# Altium footprint library KF2EDGK5.0.PcbLib: 29 footprints (part 2 of 2)
Each footprint in its own frame and in the unit in brackets; x right, y up, seen from the top. Pads: shape width x height; smd on the part's side, far side on the other; paste and mask are expansions set on the pad; w line width, h text height; cw(c..) or ccw(c..) is an arc to the next point about the centre after c.
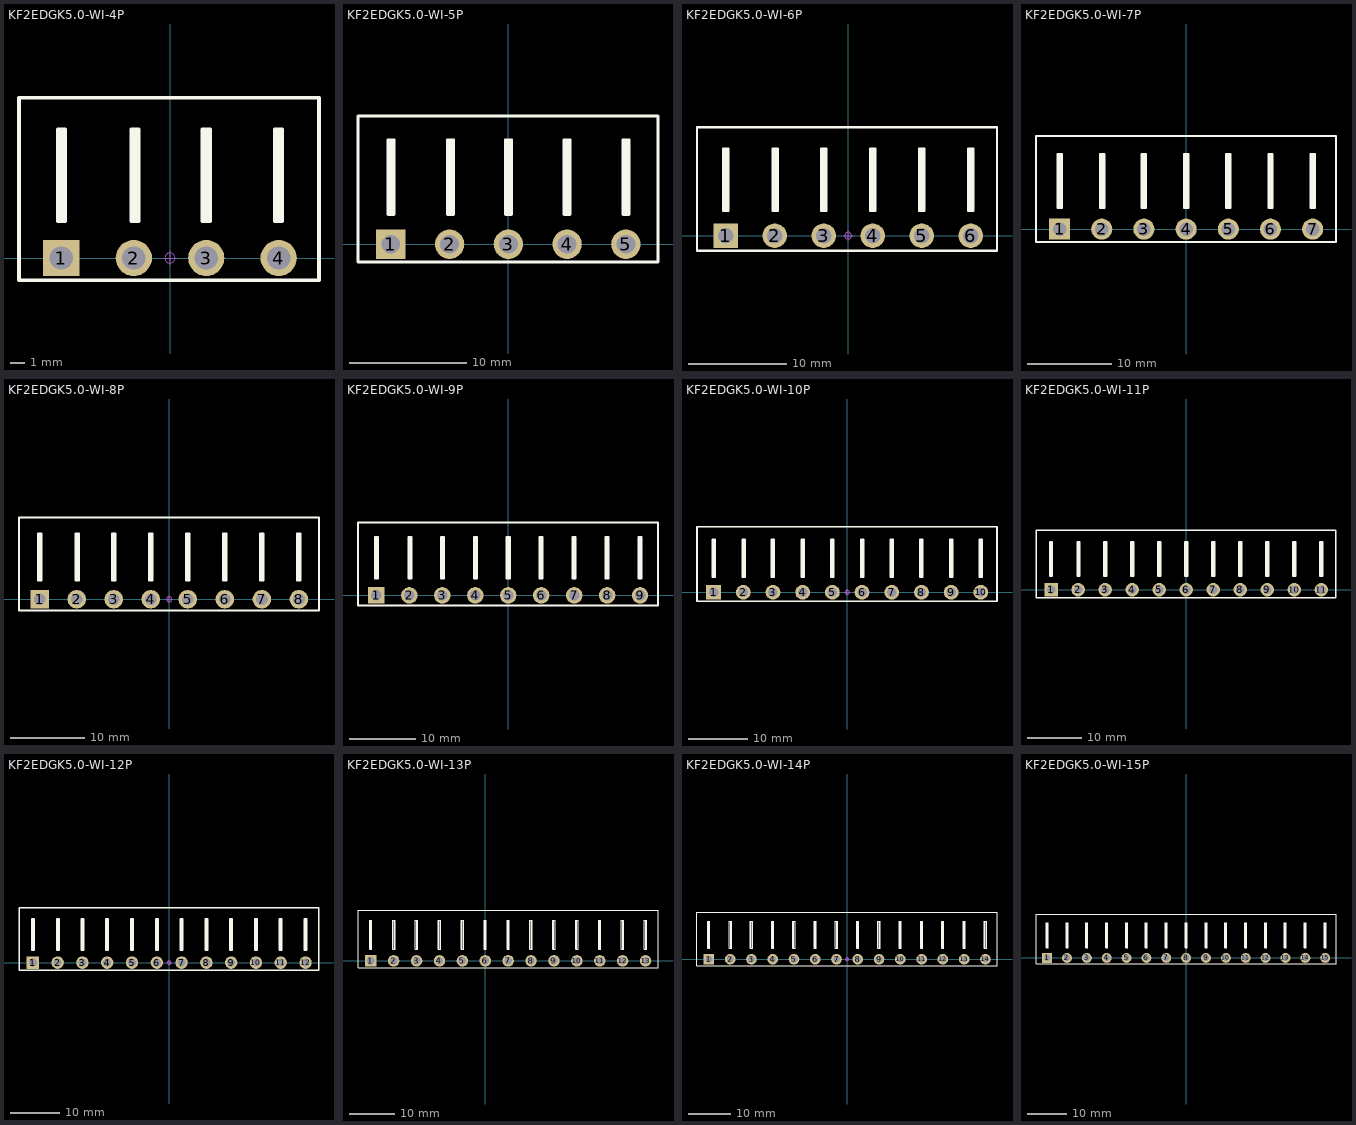
[diagram p1: the footprints below, top view; thin cyan lines are the x and y axes]

## KF2EDGK5.0-WI-4P [mm] "卧插端子"
pads (4):
  rect 2.5x2.5 hole 1.6: 1(-7.5,0)
  round 2.5 hole 1.6: 2(-2.5,0) 3(2.5,0) 4(7.5,0)
Top Overlay:
  lines w0.254: -7.5,2.54 -7.5,8.89 ; -2.42,2.54 -2.42,8.89 ; 2.5,2.54 2.5,8.89 ; 7.5,2.54 7.5,8.89 ; -7.5,8.89 -7.246,8.89 -7.246,2.54 -7.754,2.54 -7.754,8.89 -7.5,8.89 ; -2.42,8.89 -2.166,8.89 -2.166,2.54 -2.674,2.54 -2.674,8.89 -2.42,8.89 ; 2.5,8.89 2.246,8.89 2.246,2.54 2.754,2.54 2.754,8.89 2.5,8.89 ; 7.5,8.89 7.754,8.89 7.754,2.54 7.246,2.54 7.246,8.89 7.5,8.89 ; -10.421,-1.524 10.28,-1.524 10.28,11.049 -10.421,11.049 -10.421,-1.524
Mechanical 15:
  circle w0.05: c0,0 r0.35
  lines w0.05: -0.5,0 0.5,0 ; 0,-0.5 0,0.5
3D body "KF2EDGK-1P_H.STEP": height 8.5, standoff -3, extent -10.04,-0.5 -4.96,10.8
3D body "KF2EDGK-1P_H.STEP": height 8.5, standoff -3, extent -5.04,-0.5 0.04,10.8
3D body "KF2EDGK-1P_H.STEP": height 8.5, standoff -3, extent -0.04,-0.5 5.04,10.8
3D body "KF2EDGK-1P_H.STEP": height 8.5, standoff -3, extent 4.96,-0.5 10.04,10.8

## KF2EDGK5.0-WI-5P [mm] "卧插端子"
pads (5):
  rect 2.5x2.5 hole 1.6: 1(-10,0)
  round 2.5 hole 1.6: 2(-5,0) 3(0,0) 4(5,0) 5(10,0)
Top Overlay:
  lines w0.254: -10,2.54 -10,8.89 ; -4.92,2.54 -4.92,8.89 ; 0,2.54 0,8.89 ; 5,2.54 5,8.89 ; 10,2.54 10,8.89 ; -10,8.89 -9.746,8.89 -9.746,2.54 -10.254,2.54 -10.254,8.89 -10,8.89 ; -4.92,8.89 -4.666,8.89 -4.666,2.54 -5.174,2.54 -5.174,8.89 -4.92,8.89 ; 0,8.89 -0.254,8.89 -0.254,2.54 0.254,2.54 0.254,8.89 0,8.89 ; 5,8.89 5.254,8.89 5.254,2.54 4.746,2.54 4.746,8.89 5,8.89 ; 10,8.89 9.746,8.89 9.746,2.54 10.254,2.54 10.254,8.89 10,8.89 ; -12.794,-1.524 12.733,-1.524 12.733,10.922 -12.794,10.922 -12.794,-1.524
Mechanical 15:
  circle w0.05: c0,0 r0.35
  lines w0.05: -0.5,0 0.5,0 ; 0,-0.5 0,0.5
3D body "KF2EDGK-1P_H.STEP": height 8.5, standoff -3, extent 7.46,-0.5 12.54,10.8
3D body "KF2EDGK-1P_H.STEP": height 8.5, standoff -3, extent 2.46,-0.5 7.54,10.8
3D body "KF2EDGK-1P_H.STEP": height 8.5, standoff -3, extent -2.54,-0.5 2.54,10.8
3D body "KF2EDGK-1P_H.STEP": height 8.5, standoff -3, extent -7.54,-0.5 -2.46,10.8
3D body "KF2EDGK-1P_H.STEP": height 8.5, standoff -3, extent -12.54,-0.5 -7.46,10.8

## KF2EDGK5.0-WI-6P [mm] "卧插端子"
pads (6):
  rect 2.5x2.5 hole 1.6: 1(-12.5,0)
  round 2.5 hole 1.6: 2(-7.5,0) 3(-2.5,0) 4(2.5,0) 5(7.5,0) 6(12.5,0)
Top Overlay:
  lines w0.254: -12.5,2.54 -12.5,8.89 ; -7.42,2.54 -7.42,8.89 ; -2.5,2.54 -2.5,8.89 ; 2.5,2.54 2.5,8.89 ; 7.5,2.54 7.5,8.89 ; 12.5,2.54 12.5,8.89 ; -12.5,8.89 -12.754,8.89 -12.754,2.54 -12.246,2.54 -12.246,8.89 -12.5,8.89 ; -7.42,8.89 -7.674,8.89 -7.674,2.54 -7.166,2.54 -7.166,8.89 -7.42,8.89 ; -2.5,8.89 -2.246,8.89 -2.246,2.54 -2.754,2.54 -2.754,8.89 -2.5,8.89 ; 2.5,8.89 2.246,8.89 2.246,2.54 2.754,2.54 2.754,8.89 2.5,8.89 ; 7.5,8.89 7.754,8.89 7.754,2.54 7.246,2.54 7.246,8.89 7.5,8.89 ; 12.5,8.89 12.246,8.89 12.246,2.54 12.754,2.54 12.754,8.89 12.5,8.89 ; -15.421,-1.524 -15.421,11.049 15.186,11.049 15.186,-1.524 -15.421,-1.524
Mechanical 15:
  circle w0.05: c0,0 r0.35
  lines w0.05: -0.5,0 0.5,0 ; 0,-0.5 0,0.5
3D body "KF2EDGK-1P_H.STEP": height 8.5, standoff -3, extent -15.04,-0.5 -9.96,10.8
3D body "KF2EDGK-1P_H.STEP": height 8.5, standoff -3, extent -10.04,-0.5 -4.96,10.8
3D body "KF2EDGK-1P_H.STEP": height 8.5, standoff -3, extent -5.04,-0.5 0.04,10.8
3D body "KF2EDGK-1P_H.STEP": height 8.5, standoff -3, extent -0.04,-0.5 5.04,10.8
3D body "KF2EDGK-1P_H.STEP": height 8.5, standoff -3, extent 4.96,-0.5 10.04,10.8
3D body "KF2EDGK-1P_H.STEP": height 8.5, standoff -3, extent 9.96,-0.5 15.04,10.8

## KF2EDGK5.0-WI-7P [mm] "卧插端子"
pads (7):
  rect 2.5x2.5 hole 1.6: 1(-15,0)
  round 2.5 hole 1.6: 2(-10,0) 3(-5,0) 4(0,0) 5(5,0) 6(10,0) 7(15,0)
Top Overlay:
  lines w0.254: -15,2.54 -15,8.89 ; -9.92,2.54 -9.92,8.89 ; -5,2.54 -5,8.89 ; 0,2.54 0,8.89 ; 5,2.54 5,8.89 ; 10,2.54 10,8.89 ; 15,2.54 15,8.89 ; -15,8.89 -14.746,8.89 -14.746,2.54 -15.254,2.54 -15.254,8.89 -15,8.89 ; -9.92,8.89 -9.666,8.89 -9.666,2.54 -10.174,2.54 -10.174,8.89 -9.92,8.89 ; -5,8.89 -5.254,8.89 -5.254,2.54 -4.746,2.54 -4.746,8.89 -5,8.89 ; 0,8.89 0.254,8.89 0.254,2.54 -0.254,2.54 -0.254,8.89 0,8.89 ; 5,8.89 4.746,8.89 4.746,2.54 5.254,2.54 5.254,8.89 5,8.89 ; 10,8.89 10.254,8.89 10.254,2.54 9.746,2.54 9.746,8.89 10,8.89 ; 15,8.89 14.746,8.89 14.746,2.54 15.254,2.54 15.254,8.89 15,8.89 ; -17.794,-1.524 17.766,-1.524 17.766,11.049 -17.794,11.049 -17.794,-1.524
Mechanical 15:
  circle w0.05: c0,0 r0.35
  lines w0.05: -0.5,0 0.5,0 ; 0,-0.5 0,0.5
3D body "KF2EDGK-1P_H.STEP": height 8.5, standoff -3, extent 12.46,-0.5 17.54,10.8
3D body "KF2EDGK-1P_H.STEP": height 8.5, standoff -3, extent 7.46,-0.5 12.54,10.8
3D body "KF2EDGK-1P_H.STEP": height 8.5, standoff -3, extent 2.46,-0.5 7.54,10.8
3D body "KF2EDGK-1P_H.STEP": height 8.5, standoff -3, extent -2.54,-0.5 2.54,10.8
3D body "KF2EDGK-1P_H.STEP": height 8.5, standoff -3, extent -7.54,-0.5 -2.46,10.8
3D body "KF2EDGK-1P_H.STEP": height 8.5, standoff -3, extent -12.54,-0.5 -7.46,10.8
3D body "KF2EDGK-1P_H.STEP": height 8.5, standoff -3, extent -17.54,-0.5 -12.46,10.8

## KF2EDGK5.0-WI-8P [mm] "卧插端子"
pads (8):
  rect 2.5x2.5 hole 1.6: 1(-17.5,0)
  round 2.5 hole 1.6: 2(-12.5,0) 3(-7.5,0) 4(-2.5,0) 5(2.5,0) 6(7.5,0) 7(12.5,0) 8(17.5,0)
Top Overlay:
  lines w0.254: -17.5,2.54 -17.5,8.89 ; -12.42,2.54 -12.42,8.89 ; -7.5,2.54 -7.5,8.89 ; -2.5,2.54 -2.5,8.89 ; 2.5,2.54 2.5,8.89 ; 7.5,2.54 7.5,8.89 ; 12.5,2.54 12.5,8.89 ; 17.5,2.54 17.5,8.89 ; -17.5,8.89 -17.754,8.89 -17.754,2.54 -17.246,2.54 -17.246,8.89 -17.5,8.89 ; -12.42,8.89 -12.674,8.89 -12.674,2.54 -12.166,2.54 -12.166,8.89 -12.42,8.89 ; -7.5,8.89 -7.246,8.89 -7.246,2.54 -7.754,2.54 -7.754,8.89 -7.5,8.89 ; -2.5,8.89 -2.754,8.89 -2.754,2.54 -2.246,2.54 -2.246,8.89 -2.5,8.89 ; 2.5,8.89 2.754,8.89 2.754,2.54 2.246,2.54 2.246,8.89 2.5,8.89 ; 7.5,8.89 7.246,8.89 7.246,2.54 7.754,2.54 7.754,8.89 7.5,8.89 ; 12.5,8.89 12.754,8.89 12.754,2.54 12.246,2.54 12.246,8.89 12.5,8.89 ; 17.5,8.89 17.246,8.89 17.246,2.54 17.754,2.54 17.754,8.89 17.5,8.89 ; -20.294,-1.524 -20.294,11.049 20.219,11.049 20.219,-1.524 -20.294,-1.524
Mechanical 15:
  circle w0.05: c0,0 r0.35
  lines w0.05: -0.5,0 0.5,0 ; 0,-0.5 0,0.5
3D body "KF2EDGK-1P_H.STEP": height 8.5, standoff -3, extent -20.04,-0.5 -14.96,10.8
3D body "KF2EDGK-1P_H.STEP": height 8.5, standoff -3, extent -15.04,-0.5 -9.96,10.8
3D body "KF2EDGK-1P_H.STEP": height 8.5, standoff -3, extent -10.04,-0.5 -4.96,10.8
3D body "KF2EDGK-1P_H.STEP": height 8.5, standoff -3, extent -5.04,-0.5 0.04,10.8
3D body "KF2EDGK-1P_H.STEP": height 8.5, standoff -3, extent -0.04,-0.5 5.04,10.8
3D body "KF2EDGK-1P_H.STEP": height 8.5, standoff -3, extent 4.96,-0.5 10.04,10.8
3D body "KF2EDGK-1P_H.STEP": height 8.5, standoff -3, extent 9.96,-0.5 15.04,10.8
3D body "KF2EDGK-1P_H.STEP": height 8.5, standoff -3, extent 14.96,-0.5 20.04,10.8

## KF2EDGK5.0-WI-9P [mm] "卧插端子"
pads (9):
  rect 2.5x2.5 hole 1.6: 1(-20,0)
  round 2.5 hole 1.6: 2(-15,0) 3(-10,0) 4(-5,0) 5(0,0) 6(5,0) 7(10,0) 8(15,0) 9(20,0)
Top Overlay:
  lines w0.254: -20,2.54 -20,8.89 ; -14.92,2.54 -14.92,8.89 ; -10,2.54 -10,8.89 ; -5,2.54 -5,8.89 ; 0,2.54 0,8.89 ; 5,2.54 5,8.89 ; 10,2.54 10,8.89 ; 15,2.54 15,8.89 ; 20,2.54 20,8.89 ; -20,8.89 -19.746,8.89 -19.746,2.54 -20.254,2.54 -20.254,8.89 -20,8.89 ; -14.92,8.89 -14.666,8.89 -14.666,2.54 -15.174,2.54 -15.174,8.89 -14.92,8.89 ; -10,8.89 -10.254,8.89 -10.254,2.54 -9.746,2.54 -9.746,8.89 -10,8.89 ; -5,8.89 -4.746,8.89 -4.746,2.54 -5.254,2.54 -5.254,8.89 -5,8.89 ; 0,8.89 -0.254,8.89 -0.254,2.54 0.254,2.54 0.254,8.89 0,8.89 ; 5,8.89 5.254,8.89 5.254,2.54 4.746,2.54 4.746,8.89 5,8.89 ; 10,8.89 9.746,8.89 9.746,2.54 10.254,2.54 10.254,8.89 10,8.89 ; 15,8.89 15.254,8.89 15.254,2.54 14.746,2.54 14.746,8.89 15,8.89 ; 20,8.89 19.746,8.89 19.746,2.54 20.254,2.54 20.254,8.89 20,8.89 ; -22.794,-1.524 17.719,-1.524 22.719,-1.524 22.719,11.049 17.719,11.049 -22.794,11.049 -22.794,-1.524
Mechanical 15:
  circle w0.05: c0,0 r0.35
  lines w0.05: -0.5,0 0.5,0 ; 0,-0.5 0,0.5
3D body "KF2EDGK-1P_H.STEP": height 8.5, standoff -3, extent 12.46,-0.5 17.54,10.8
3D body "KF2EDGK-1P_H.STEP": height 8.5, standoff -3, extent 7.46,-0.5 12.54,10.8
3D body "KF2EDGK-1P_H.STEP": height 8.5, standoff -3, extent 2.46,-0.5 7.54,10.8
3D body "KF2EDGK-1P_H.STEP": height 8.5, standoff -3, extent -2.54,-0.5 2.54,10.8
3D body "KF2EDGK-1P_H.STEP": height 8.5, standoff -3, extent -7.54,-0.5 -2.46,10.8
3D body "KF2EDGK-1P_H.STEP": height 8.5, standoff -3, extent -12.54,-0.5 -7.46,10.8
3D body "KF2EDGK-1P_H.STEP": height 8.5, standoff -3, extent -17.54,-0.5 -12.46,10.8
3D body "KF2EDGK-1P_H.STEP": height 8.5, standoff -3, extent -22.54,-0.5 -17.46,10.8
3D body "KF2EDGK-1P_H.STEP": height 8.5, standoff -3, extent 17.46,-0.5 22.54,10.8

## KF2EDGK5.0-WI-10P [mm] "卧插端子"
pads (10):
  rect 2.5x2.5 hole 1.6: 1(-22.5,0)
  round 2.5 hole 1.6: 2(-17.5,0) 3(-12.5,0) 4(-7.5,0) 5(-2.5,0) 6(2.5,0) 7(7.5,0) 8(12.5,0) 9(17.5,0) 10(22.5,0)
Top Overlay:
  lines w0.254: -22.5,2.54 -22.5,8.89 ; -17.42,2.54 -17.42,8.89 ; -12.5,2.54 -12.5,8.89 ; -7.5,2.54 -7.5,8.89 ; -2.5,2.54 -2.5,8.89 ; 2.5,2.54 2.5,8.89 ; 7.5,2.54 7.5,8.89 ; 12.5,2.54 12.5,8.89 ; 17.5,2.54 17.5,8.89 ; 22.5,2.54 22.5,8.89 ; -22.5,8.89 -22.246,8.89 -22.246,2.54 -22.754,2.54 -22.754,8.89 -22.5,8.89 ; -17.42,8.89 -17.166,8.89 -17.166,2.54 -17.674,2.54 -17.674,8.89 -17.42,8.89 ; -12.5,8.89 -12.754,8.89 -12.754,2.54 -12.246,2.54 -12.246,8.89 -12.5,8.89 ; -7.5,8.89 -7.246,8.89 -7.246,2.54 -7.754,2.54 -7.754,8.89 -7.5,8.89 ; -2.5,8.89 -2.754,8.89 -2.754,2.54 -2.246,2.54 -2.246,8.89 -2.5,8.89 ; 2.5,8.89 2.754,8.89 2.754,2.54 2.246,2.54 2.246,8.89 2.5,8.89 ; 7.5,8.89 7.246,8.89 7.246,2.54 7.754,2.54 7.754,8.89 7.5,8.89 ; 12.5,8.89 12.754,8.89 12.754,2.54 12.246,2.54 12.246,8.89 12.5,8.89 ; 17.5,8.89 17.246,8.89 17.246,2.54 17.754,2.54 17.754,8.89 17.5,8.89 ; 22.5,8.89 22.754,8.89 22.754,2.54 22.246,2.54 22.246,8.89 22.5,8.89 ; -25.294,-1.524 15.219,-1.524 20.219,-1.524 25.219,-1.524 25.219,11.049 20.219,11.049 15.219,11.049 -25.294,11.049 -25.294,-1.524
Mechanical 15:
  circle w0.05: c0,0 r0.35
  lines w0.05: -0.5,0 0.5,0 ; 0,-0.5 0,0.5
3D body "KF2EDGK-1P_H.STEP": height 8.5, standoff -3, extent 19.96,-0.5 25.04,10.8
3D body "KF2EDGK-1P_H.STEP": height 8.5, standoff -3, extent 9.96,-0.5 15.04,10.8
3D body "KF2EDGK-1P_H.STEP": height 8.5, standoff -3, extent 4.96,-0.5 10.04,10.8
3D body "KF2EDGK-1P_H.STEP": height 8.5, standoff -3, extent -0.04,-0.5 5.04,10.8
3D body "KF2EDGK-1P_H.STEP": height 8.5, standoff -3, extent -5.04,-0.5 0.04,10.8
3D body "KF2EDGK-1P_H.STEP": height 8.5, standoff -3, extent -10.04,-0.5 -4.96,10.8
3D body "KF2EDGK-1P_H.STEP": height 8.5, standoff -3, extent -15.04,-0.5 -9.96,10.8
3D body "KF2EDGK-1P_H.STEP": height 8.5, standoff -3, extent -20.04,-0.5 -14.96,10.8
3D body "KF2EDGK-1P_H.STEP": height 8.5, standoff -3, extent -25.04,-0.5 -19.96,10.8
3D body "KF2EDGK-1P_H.STEP": height 8.5, standoff -3, extent 14.96,-0.5 20.04,10.8

## KF2EDGK5.0-WI-11P [mm] "卧插端子"
pads (11):
  rect 2.5x2.5 hole 1.6: 1(-25,0)
  round 2.5 hole 1.6: 2(-20,0) 3(-15,0) 4(-10,0) 5(-5,0) 6(0,0) 7(5,0) 8(10,0) 9(15,0) 10(20,0) 11(25,0)
Top Overlay:
  lines w0.254: -25,2.54 -25,8.89 ; -19.92,2.54 -19.92,8.89 ; -15,2.54 -15,8.89 ; -10,2.54 -10,8.89 ; -5,2.54 -5,8.89 ; 0,2.54 0,8.89 ; 5,2.54 5,8.89 ; 10,2.54 10,8.89 ; 15,2.54 15,8.89 ; 20,2.54 20,8.89 ; 25,2.54 25,8.89 ; -25,8.89 -24.746,8.89 -24.746,2.54 -25.254,2.54 -25.254,8.89 -25,8.89 ; -19.92,8.89 -19.666,8.89 -19.666,2.54 -20.174,2.54 -20.174,8.89 -19.92,8.89 ; -15,8.89 -15.254,8.89 -15.254,2.54 -14.746,2.54 -14.746,8.89 -15,8.89 ; -10,8.89 -9.746,8.89 -9.746,2.54 -10.254,2.54 -10.254,8.89 -10,8.89 ; -5,8.89 -5.254,8.89 -5.254,2.54 -4.746,2.54 -4.746,8.89 -5,8.89 ; 0,8.89 0.254,8.89 0.254,2.54 -0.254,2.54 -0.254,8.89 0,8.89 ; 5,8.89 4.746,8.89 4.746,2.54 5.254,2.54 5.254,8.89 5,8.89 ; 10,8.89 10.254,8.89 10.254,2.54 9.746,2.54 9.746,8.89 10,8.89 ; 15,8.89 14.746,8.89 14.746,2.54 15.254,2.54 15.254,8.89 15,8.89 ; 20,8.89 20.254,8.89 20.254,2.54 19.746,2.54 19.746,8.89 20,8.89 ; 25,8.89 24.746,8.89 24.746,2.54 25.254,2.54 25.254,8.89 25,8.89 ; -27.794,-1.524 12.719,-1.524 17.719,-1.524 22.719,-1.524 27.719,-1.524 27.719,11.049 22.719,11.049 17.719,11.049 12.719,11.049 -27.794,11.049 -27.794,-1.524
Mechanical 15:
  circle w0.05: c0,0 r0.35
  lines w0.05: -0.5,0 0.5,0 ; 0,-0.5 0,0.5
3D body "KF2EDGK-1P_H.STEP": height 8.5, standoff -3, extent 22.46,-0.5 27.54,10.8
3D body "KF2EDGK-1P_H.STEP": height 8.5, standoff -3, extent 17.46,-0.5 22.54,10.8
3D body "KF2EDGK-1P_H.STEP": height 8.5, standoff -3, extent 7.46,-0.5 12.54,10.8
3D body "KF2EDGK-1P_H.STEP": height 8.5, standoff -3, extent 2.46,-0.5 7.54,10.8
3D body "KF2EDGK-1P_H.STEP": height 8.5, standoff -3, extent -2.54,-0.5 2.54,10.8
3D body "KF2EDGK-1P_H.STEP": height 8.5, standoff -3, extent -7.54,-0.5 -2.46,10.8
3D body "KF2EDGK-1P_H.STEP": height 8.5, standoff -3, extent -12.54,-0.5 -7.46,10.8
3D body "KF2EDGK-1P_H.STEP": height 8.5, standoff -3, extent -17.54,-0.5 -12.46,10.8
3D body "KF2EDGK-1P_H.STEP": height 8.5, standoff -3, extent -22.54,-0.5 -17.46,10.8
3D body "KF2EDGK-1P_H.STEP": height 8.5, standoff -3, extent -27.54,-0.5 -22.46,10.8
3D body "KF2EDGK-1P_H.STEP": height 8.5, standoff -3, extent 12.46,-0.5 17.54,10.8

## KF2EDGK5.0-WI-12P [mm] "卧插端子"
pads (12):
  rect 2.5x2.5 hole 1.6: 1(-27.5,0)
  round 2.5 hole 1.6: 2(-22.5,0) 3(-17.5,0) 4(-12.5,0) 5(-7.5,0) 6(-2.5,0) 7(2.5,0) 8(7.5,0) 9(12.5,0) 10(17.5,0) 11(22.5,0) 12(27.5,0)
Top Overlay:
  lines w0.254: -27.5,2.54 -27.5,8.89 ; -22.42,2.54 -22.42,8.89 ; -17.5,2.54 -17.5,8.89 ; -12.5,2.54 -12.5,8.89 ; -7.5,2.54 -7.5,8.89 ; -2.5,2.54 -2.5,8.89 ; 2.5,2.54 2.5,8.89 ; 7.5,2.54 7.5,8.89 ; 12.5,2.54 12.5,8.89 ; 17.5,2.54 17.5,8.89 ; 22.5,2.54 22.5,8.89 ; 27.5,2.54 27.5,8.89 ; -27.5,8.89 -27.754,8.89 -27.754,2.54 -27.246,2.54 -27.246,8.89 -27.5,8.89 ; -22.42,8.89 -22.674,8.89 -22.674,2.54 -22.166,2.54 -22.166,8.89 -22.42,8.89 ; -17.5,8.89 -17.246,8.89 -17.246,2.54 -17.754,2.54 -17.754,8.89 -17.5,8.89 ; -12.5,8.89 -12.754,8.89 -12.754,2.54 -12.246,2.54 -12.246,8.89 -12.5,8.89 ; -7.5,8.89 -7.246,8.89 -7.246,2.54 -7.754,2.54 -7.754,8.89 -7.5,8.89 ; -2.5,8.89 -2.754,8.89 -2.754,2.54 -2.246,2.54 -2.246,8.89 -2.5,8.89 ; 2.5,8.89 2.754,8.89 2.754,2.54 2.246,2.54 2.246,8.89 2.5,8.89 ; 7.5,8.89 7.246,8.89 7.246,2.54 7.754,2.54 7.754,8.89 7.5,8.89 ; 12.5,8.89 12.754,8.89 12.754,2.54 12.246,2.54 12.246,8.89 12.5,8.89 ; 17.5,8.89 17.246,8.89 17.246,2.54 17.754,2.54 17.754,8.89 17.5,8.89 ; 22.5,8.89 22.754,8.89 22.754,2.54 22.246,2.54 22.246,8.89 22.5,8.89 ; 27.5,8.89 27.246,8.89 27.246,2.54 27.754,2.54 27.754,8.89 27.5,8.89 ; -30.294,-1.524 -30.294,11.049 10.219,11.049 15.219,11.049 20.219,11.049 25.219,11.049 30.219,11.049 30.219,-1.524 25.219,-1.524 20.219,-1.524 15.219,-1.524 10.219,-1.524 -30.294,-1.524
Mechanical 15:
  circle w0.05: c0,0 r0.35
  lines w0.05: -0.5,0 0.5,0 ; 0,-0.5 0,0.5
3D body "KF2EDGK-1P_H.STEP": height 8.5, standoff -3, extent 24.96,-0.5 30.04,10.8
3D body "KF2EDGK-1P_H.STEP": height 8.5, standoff -3, extent 9.96,-0.5 15.04,10.8
3D body "KF2EDGK-1P_H.STEP": height 8.5, standoff -3, extent -30.04,-0.5 -24.96,10.8
3D body "KF2EDGK-1P_H.STEP": height 8.5, standoff -3, extent -25.04,-0.5 -19.96,10.8
3D body "KF2EDGK-1P_H.STEP": height 8.5, standoff -3, extent -20.04,-0.5 -14.96,10.8
3D body "KF2EDGK-1P_H.STEP": height 8.5, standoff -3, extent -15.04,-0.5 -9.96,10.8
3D body "KF2EDGK-1P_H.STEP": height 8.5, standoff -3, extent -10.04,-0.5 -4.96,10.8
3D body "KF2EDGK-1P_H.STEP": height 8.5, standoff -3, extent -5.04,-0.5 0.04,10.8
3D body "KF2EDGK-1P_H.STEP": height 8.5, standoff -3, extent -0.04,-0.5 5.04,10.8
3D body "KF2EDGK-1P_H.STEP": height 8.5, standoff -3, extent 4.96,-0.5 10.04,10.8
3D body "KF2EDGK-1P_H.STEP": height 8.5, standoff -3, extent 14.96,-0.5 20.04,10.8
3D body "KF2EDGK-1P_H.STEP": height 8.5, standoff -3, extent 19.96,-0.5 25.04,10.8

## KF2EDGK5.0-WI-13P [mm] "卧插端子"
pads (13):
  rect 2.5x2.5 hole 1.6: 1(-25,0)
  round 2.5 hole 1.6: 2(-20,0) 3(-15,0) 4(-10,0) 5(-5,0) 6(0,0) 7(5,0) 8(10,0) 9(15,0) 10(20,0) 11(25,0) 12(30,0) 13(35,0)
Top Overlay:
  lines w0.254: -25,2.54 -25,8.89 ; -19.92,2.54 -19.92,8.89 ; -15,2.54 -15,8.89 ; -10,2.54 -10,8.89 ; -5,2.54 -5,8.89 ; 0,2.54 0,8.89 ; 5,2.54 5,8.89 ; 10,2.54 10,8.89 ; 15,2.54 15,8.89 ; 20,2.54 20,8.89 ; 25,2.54 25,8.89 ; 30,2.54 30,8.89 ; 35,2.54 35,8.89 ; -25,8.89 -25.254,8.89 -25.254,2.54 -24.746,2.54 -24.746,8.89 -25,8.89 ; -19.92,8.89 -20.174,8.89 -20.174,2.54 -19.666,2.54 -19.666,8.89 -19.92,8.89 ; -15,8.89 -14.746,8.89 -14.746,2.54 -15.254,2.54 -15.254,8.89 -15,8.89 ; -10,8.89 -10.254,8.89 -10.254,2.54 -9.746,2.54 -9.746,8.89 -10,8.89 ; -5,8.89 -4.746,8.89 -4.746,2.54 -5.254,2.54 -5.254,8.89 -5,8.89 ; 0,8.89 -0.254,8.89 -0.254,2.54 0.254,2.54 0.254,8.89 0,8.89 ; 5,8.89 5.254,8.89 5.254,2.54 4.746,2.54 4.746,8.89 5,8.89 ; 10,8.89 9.746,8.89 9.746,2.54 10.254,2.54 10.254,8.89 10,8.89 ; 15,8.89 15.254,8.89 15.254,2.54 14.746,2.54 14.746,8.89 15,8.89 ; 20,8.89 19.746,8.89 19.746,2.54 20.254,2.54 20.254,8.89 20,8.89 ; 25,8.89 25.254,8.89 25.254,2.54 24.746,2.54 24.746,8.89 25,8.89 ; 30,8.89 29.746,8.89 29.746,2.54 30.254,2.54 ; 30,8.89 30.254,8.89 ; 30.254,2.54 30.254,8.89 ; 30.254,2.54 30.254,8.89 ; 35,8.89 35.254,8.89 35.254,2.54 34.746,2.54 34.746,8.89 35,8.89 ; -27.794,-1.524 -27.794,11.049 12.719,11.049 17.719,11.049 22.719,11.049 27.719,11.049 32.719,11.049 37.719,11.049 37.719,-1.524 32.719,-1.524 27.719,-1.524 22.719,-1.524 17.719,-1.524 12.719,-1.524 -27.794,-1.524
Mechanical 15:
  circle w0.05: c0,0 r0.35
  lines w0.05: -0.5,0 0.5,0 ; 0,-0.5 0,0.5
3D body "KF2EDGK-1P_H.STEP": height 8.5, standoff -3, extent 27.46,-0.5 32.54,10.8
3D body "KF2EDGK-1P_H.STEP": height 8.5, standoff -3, extent 12.46,-0.5 17.54,10.8
3D body "KF2EDGK-1P_H.STEP": height 8.5, standoff -3, extent -27.54,-0.5 -22.46,10.8
3D body "KF2EDGK-1P_H.STEP": height 8.5, standoff -3, extent -22.54,-0.5 -17.46,10.8
3D body "KF2EDGK-1P_H.STEP": height 8.5, standoff -3, extent -17.54,-0.5 -12.46,10.8
3D body "KF2EDGK-1P_H.STEP": height 8.5, standoff -3, extent -12.54,-0.5 -7.46,10.8
3D body "KF2EDGK-1P_H.STEP": height 8.5, standoff -3, extent -7.54,-0.5 -2.46,10.8
3D body "KF2EDGK-1P_H.STEP": height 8.5, standoff -3, extent -2.54,-0.5 2.54,10.8
3D body "KF2EDGK-1P_H.STEP": height 8.5, standoff -3, extent 2.46,-0.5 7.54,10.8
3D body "KF2EDGK-1P_H.STEP": height 8.5, standoff -3, extent 7.46,-0.5 12.54,10.8
3D body "KF2EDGK-1P_H.STEP": height 8.5, standoff -3, extent 17.46,-0.5 22.54,10.8
3D body "KF2EDGK-1P_H.STEP": height 8.5, standoff -3, extent 22.46,-0.5 27.54,10.8
3D body "KF2EDGK-1P_H.STEP": height 8.5, standoff -3, extent 32.46,-0.5 37.54,10.8

## KF2EDGK5.0-WI-14P [mm] "卧插端子"
pads (14):
  rect 2.5x2.5 hole 1.6: 1(-32.5,0)
  round 2.5 hole 1.6: 2(-27.5,0) 3(-22.5,0) 4(-17.5,0) 5(-12.5,0) 6(-7.5,0) 7(-2.5,0) 8(2.5,0) 9(7.5,0) 10(12.5,0) 11(17.5,0) 12(22.5,0) 13(27.5,0) 14(32.5,0)
Top Overlay:
  lines w0.254: -32.5,2.54 -32.5,8.89 ; -27.42,2.54 -27.42,8.89 ; -22.5,2.54 -22.5,8.89 ; -17.5,2.54 -17.5,8.89 ; -12.5,2.54 -12.5,8.89 ; -7.5,2.54 -7.5,8.89 ; -2.5,2.54 -2.5,8.89 ; 2.5,2.54 2.5,8.89 ; 7.5,2.54 7.5,8.89 ; 12.5,2.54 12.5,8.89 ; 17.5,2.54 17.5,8.89 ; 22.5,2.54 22.5,8.89 ; 27.5,2.54 27.5,8.89 ; 32.5,2.54 32.5,8.89 ; -32.5,8.89 -32.754,8.89 -32.754,2.54 -32.246,2.54 -32.246,8.89 -32.5,8.89 ; -27.42,8.89 -27.674,8.89 -27.674,2.54 -27.166,2.54 -27.166,8.89 -27.42,8.89 ; -22.5,8.89 -22.246,8.89 -22.246,2.54 -22.754,2.54 -22.754,8.89 -22.5,8.89 ; -17.5,8.89 -17.754,8.89 -17.754,2.54 -17.246,2.54 -17.246,8.89 -17.5,8.89 ; -12.5,8.89 -12.246,8.89 -12.246,2.54 -12.754,2.54 -12.754,8.89 -12.5,8.89 ; -7.5,8.89 -7.754,8.89 -7.754,2.54 -7.246,2.54 -7.246,8.89 -7.5,8.89 ; -2.5,8.89 -2.246,8.89 -2.246,2.54 -2.754,2.54 -2.754,8.89 -2.5,8.89 ; 2.5,8.89 2.246,8.89 2.246,2.54 2.754,2.54 2.754,8.89 2.5,8.89 ; 7.5,8.89 7.754,8.89 7.754,2.54 7.246,2.54 7.246,8.89 7.5,8.89 ; 12.5,8.89 12.246,8.89 12.246,2.54 12.754,2.54 12.754,8.89 12.5,8.89 ; 17.5,8.89 17.754,8.89 17.754,2.54 17.246,2.54 17.246,8.89 17.5,8.89 ; 22.5,8.89 22.246,8.89 22.246,2.54 22.754,2.54 ; 22.5,8.89 22.754,8.89 ; 22.754,2.54 22.754,8.89 ; 22.754,2.54 22.754,8.89 ; 27.5,8.89 27.754,8.89 27.754,2.54 27.246,2.54 27.246,8.89 27.5,8.89 ; 32.5,8.89 32.246,8.89 32.246,2.54 32.754,2.54 32.754,8.89 32.5,8.89 ; -35.294,-1.524 -35.294,11.049 5.219,11.049 10.219,11.049 15.219,11.049 20.219,11.049 25.219,11.049 30.219,11.049 35.219,11.049 35.219,-1.524 30.219,-1.524 25.219,-1.524 20.219,-1.524 15.219,-1.524 10.219,-1.524 5.219,-1.524 -35.294,-1.524
Mechanical 15:
  circle w0.05: c0,0 r0.35
  lines w0.05: -0.5,0 0.5,0 ; 0,-0.5 0,0.5
3D body "KF2EDGK-1P_H.STEP": height 8.5, standoff -3, extent 19.96,-0.5 25.04,10.8
3D body "KF2EDGK-1P_H.STEP": height 8.5, standoff -3, extent 4.96,-0.5 10.04,10.8
3D body "KF2EDGK-1P_H.STEP": height 8.5, standoff -3, extent -35.04,-0.5 -29.96,10.8
3D body "KF2EDGK-1P_H.STEP": height 8.5, standoff -3, extent -30.04,-0.5 -24.96,10.8
3D body "KF2EDGK-1P_H.STEP": height 8.5, standoff -3, extent -25.04,-0.5 -19.96,10.8
3D body "KF2EDGK-1P_H.STEP": height 8.5, standoff -3, extent -20.04,-0.5 -14.96,10.8
3D body "KF2EDGK-1P_H.STEP": height 8.5, standoff -3, extent -15.04,-0.5 -9.96,10.8
3D body "KF2EDGK-1P_H.STEP": height 8.5, standoff -3, extent -10.04,-0.5 -4.96,10.8
3D body "KF2EDGK-1P_H.STEP": height 8.5, standoff -3, extent -5.04,-0.5 0.04,10.8
3D body "KF2EDGK-1P_H.STEP": height 8.5, standoff -3, extent -0.04,-0.5 5.04,10.8
3D body "KF2EDGK-1P_H.STEP": height 8.5, standoff -3, extent 9.96,-0.5 15.04,10.8
3D body "KF2EDGK-1P_H.STEP": height 8.5, standoff -3, extent 14.96,-0.5 20.04,10.8
3D body "KF2EDGK-1P_H.STEP": height 8.5, standoff -3, extent 24.96,-0.5 30.04,10.8
3D body "KF2EDGK-1P_H.STEP": height 8.5, standoff -3, extent 29.96,-0.5 35.04,10.8

## KF2EDGK5.0-WI-15P [mm] "卧插端子"
pads (15):
  rect 2.5x2.5 hole 1.6: 1(-35,0)
  round 2.5 hole 1.6: 2(-30,0) 3(-25,0) 4(-20,0) 5(-15,0) 6(-10,0) 7(-5,0) 8(0,0) 9(5,0) 10(10,0) 11(15,0) 12(20,0) 13(25,0) 14(30,0) 15(35,0)
Top Overlay:
  lines w0.254: -35,2.54 -35,8.89 ; -29.92,2.54 -29.92,8.89 ; -25,2.54 -25,8.89 ; -20,2.54 -20,8.89 ; -15,2.54 -15,8.89 ; -10,2.54 -10,8.89 ; -5,2.54 -5,8.89 ; 0,2.54 0,8.89 ; 5,2.54 5,8.89 ; 10,2.54 10,8.89 ; 15,2.54 15,8.89 ; 20,2.54 20,8.89 ; 25,2.54 25,8.89 ; 30,2.54 30,8.89 ; 35,2.54 35,8.89 ; -35,8.89 -34.746,8.89 -34.746,2.54 -35.254,2.54 -35.254,8.89 -35,8.89 ; -29.92,8.89 -29.666,8.89 -29.666,2.54 -30.174,2.54 -30.174,8.89 -29.92,8.89 ; -25,8.89 -25.254,8.89 -25.254,2.54 -24.746,2.54 -24.746,8.89 -25,8.89 ; -20,8.89 -19.746,8.89 -19.746,2.54 -20.254,2.54 -20.254,8.89 -20,8.89 ; -15,8.89 -15.254,8.89 -15.254,2.54 -14.746,2.54 -14.746,8.89 -15,8.89 ; -10,8.89 -9.746,8.89 -9.746,2.54 -10.254,2.54 -10.254,8.89 -10,8.89 ; -5,8.89 -5.254,8.89 -5.254,2.54 -4.746,2.54 -4.746,8.89 -5,8.89 ; 0,8.89 0.254,8.89 0.254,2.54 -0.254,2.54 -0.254,8.89 0,8.89 ; 5,8.89 4.746,8.89 4.746,2.54 5.254,2.54 5.254,8.89 5,8.89 ; 10,8.89 10.254,8.89 10.254,2.54 9.746,2.54 9.746,8.89 10,8.89 ; 15,8.89 14.746,8.89 14.746,2.54 15.254,2.54 15.254,8.89 15,8.89 ; 20,8.89 20.254,8.89 ; 20,8.89 19.746,8.89 19.746,2.54 20.254,2.54 ; 20.254,2.54 20.254,8.89 ; 20.254,2.54 20.254,8.89 ; 25,8.89 24.746,8.89 24.746,2.54 25.254,2.54 25.254,8.89 25,8.89 ; 30,8.89 30.254,8.89 30.254,2.54 29.746,2.54 29.746,8.89 30,8.89 ; 35,8.89 34.746,8.89 34.746,2.54 35.254,2.54 35.254,8.89 35,8.89 ; -37.794,-1.524 2.719,-1.524 7.719,-1.524 12.719,-1.524 17.719,-1.524 22.719,-1.524 27.719,-1.524 32.719,-1.524 37.719,-1.524 37.719,11.049 32.719,11.049 27.719,11.049 22.719,11.049 17.719,11.049 12.719,11.049 7.719,11.049 2.719,11.049 -37.794,11.049 -37.794,-1.524
Mechanical 15:
  circle w0.05: c0,0 r0.35
  lines w0.05: -0.5,0 0.5,0 ; 0,-0.5 0,0.5
3D body "KF2EDGK-1P_H.STEP": height 8.5, standoff -3, extent 27.46,-0.5 32.54,10.8
3D body "KF2EDGK-1P_H.STEP": height 8.5, standoff -3, extent 22.46,-0.5 27.54,10.8
3D body "KF2EDGK-1P_H.STEP": height 8.5, standoff -3, extent 12.46,-0.5 17.54,10.8
3D body "KF2EDGK-1P_H.STEP": height 8.5, standoff -3, extent 7.46,-0.5 12.54,10.8
3D body "KF2EDGK-1P_H.STEP": height 8.5, standoff -3, extent -2.54,-0.5 2.54,10.8
3D body "KF2EDGK-1P_H.STEP": height 8.5, standoff -3, extent -7.54,-0.5 -2.46,10.8
3D body "KF2EDGK-1P_H.STEP": height 8.5, standoff -3, extent -12.54,-0.5 -7.46,10.8
3D body "KF2EDGK-1P_H.STEP": height 8.5, standoff -3, extent -17.54,-0.5 -12.46,10.8
3D body "KF2EDGK-1P_H.STEP": height 8.5, standoff -3, extent -22.54,-0.5 -17.46,10.8
3D body "KF2EDGK-1P_H.STEP": height 8.5, standoff -3, extent -27.54,-0.5 -22.46,10.8
3D body "KF2EDGK-1P_H.STEP": height 8.5, standoff -3, extent -32.54,-0.5 -27.46,10.8
3D body "KF2EDGK-1P_H.STEP": height 8.5, standoff -3, extent -37.54,-0.5 -32.46,10.8
3D body "KF2EDGK-1P_H.STEP": height 8.5, standoff -3, extent 2.46,-0.5 7.54,10.8
3D body "KF2EDGK-1P_H.STEP": height 8.5, standoff -3, extent 17.46,-0.5 22.54,10.8
3D body "KF2EDGK-1P_H.STEP": height 8.5, standoff -3, extent 32.46,-0.5 37.54,10.8

## PCBComponent_1 [mm]